# Altium schematic symbol library kmilo17pet-NSC_MiscPower.SchLib: 1552 symbols (part 41 of 43)
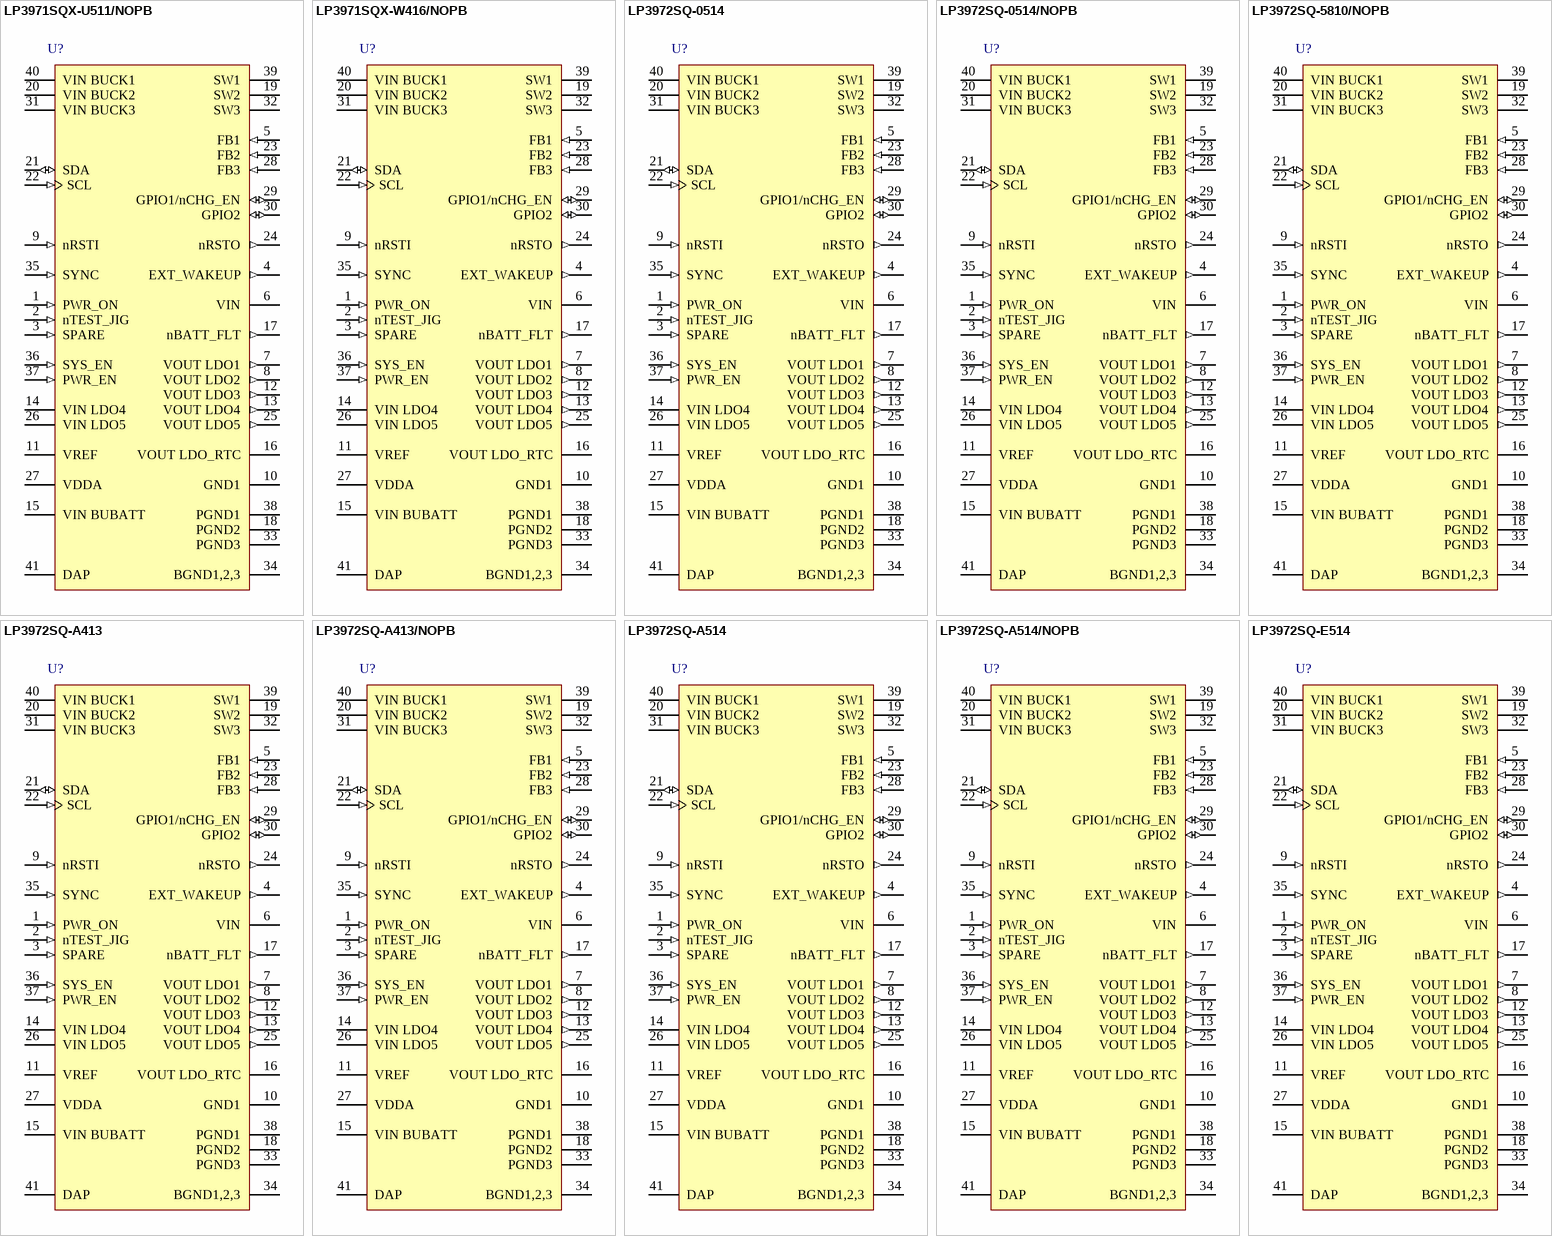
[diagram p97: symbols LP3971SQX-U511/NOPB to LP3972SQ-E514]

## LP3972SQ-A514
designator U?
Power Management Unit for Advanced Application Processor, 40-pin LLP, 1000 Reel; PartNumber: LP3972SQ-A514; Manufacturer: National Semiconductor; PackageTopMarking: NS*UZXYTT*72-A514; PowerWise: Y; CompType: MiscPower; DatasheetVersion: Aug-2011; PackageVersion: revB, Jul-2004; PackageReference: SQF40A; PackageDescription: LLP, Quad, 5 x 5 x 0.8mm Body, 40 Lead, 0.4mm Pitch, 3.6 x 3.6mm Exposed Pad; RoHS: N; PinCount: 40; High-Reliability: Y; ComponentLink1Description: Manufacturer URL; ComponentLink1URL: http://www.national.com/; ComponentLink2Description: LP3972 Datasheet; ComponentLink2URL: http://www.national.com/ds/LP/LP3972.pdf; ComponentLink3Description: LP3972 Web Page; ComponentLink3URL: http://www.national.com/pf/LP/LP3972.html; ComponentLink4Description: SQF40A Package Page; ComponentLink4URL: http://www.national.com/packaging/folders/sqf40a.html
footprint SQF40A (QFN, 41-Leads, Body 5x5mm, Pitch 0.4mm, Thermal Pad 3.6x3.6mm, NSC Recommended)
pins: 1 PWR_ON (in), 2 nTEST_JIG (in), 3 SPARE (in), 4 EXT_WAKEUP (out), 5 FB1 (in), 6 VIN (power), 7 VOUT LDO1 (out), 8 VOUT LDO2 (out), 9 nRSTI (in), 10 GND1 (power), 11 VREF, 12 VOUT LDO3 (out), 13 VOUT LDO4 (out), 14 VIN LDO4 (power), 15 VIN BUBATT (power), 16 VOUT LDO_RTC (power), 17 nBATT_FLT (out), 18 PGND2 (power), 19 SW2 (power), 20 VIN BUCK2 (power), 21 SDA (io), 22 SCL (in), 23 FB2 (in), 24 nRSTO (out), 25 VOUT LDO5 (out), 26 VIN LDO5 (power), 27 VDDA (power), 28 FB3 (in), 29 GPIO1/nCHG_EN (io), 30 GPIO2 (io), 31 VIN BUCK3 (power), 32 SW3 (power), 33 PGND3 (power), 34 BGND1,2,3 (power), 35 SYNC (in), 36 SYS_EN (in), 37 PWR_EN (in), 38 PGND1 (power), 39 SW1 (power), 40 VIN BUCK1 (power), 41 DAP (power)

## LP3972SQ-A514/NOPB
designator U?
Power Management Unit for Advanced Application Processors, 40-pin LLP, Pb-Free, 1000 Reel; PartNumber: LP3972SQ-A514/NOPB; Manufacturer: National Semiconductor; PackageTopMarking: NS*UZXYTT*72-A514; PowerWise: Y; CompType: MiscPower; DatasheetVersion: Aug-2011; PackageVersion: revB, Jul-2004; PackageReference: SQF40A; PackageDescription: LLP, Quad, 5 x 5 x 0.8mm Body, 40 Lead, 0.4mm Pitch, 3.6 x 3.6mm Exposed Pad; RoHS: Y; PinCount: 40; High-Reliability: Y; ComponentLink1Description: Manufacturer URL; ComponentLink1URL: http://www.national.com/; ComponentLink2Description: LP3972 Datasheet; ComponentLink2URL: http://www.national.com/ds/LP/LP3972.pdf; ComponentLink3Description: LP3972 Web Page; ComponentLink3URL: http://www.national.com/pf/LP/LP3972.html; ComponentLink4Description: SQF40A Package Page; ComponentLink4URL: http://www.national.com/packaging/folders/sqf40a.html
footprint SQF40A (QFN, 41-Leads, Body 5x5mm, Pitch 0.4mm, Thermal Pad 3.6x3.6mm, NSC Recommended)
pins: 1 PWR_ON (in), 2 nTEST_JIG (in), 3 SPARE (in), 4 EXT_WAKEUP (out), 5 FB1 (in), 6 VIN (power), 7 VOUT LDO1 (out), 8 VOUT LDO2 (out), 9 nRSTI (in), 10 GND1 (power), 11 VREF, 12 VOUT LDO3 (out), 13 VOUT LDO4 (out), 14 VIN LDO4 (power), 15 VIN BUBATT (power), 16 VOUT LDO_RTC (power), 17 nBATT_FLT (out), 18 PGND2 (power), 19 SW2 (power), 20 VIN BUCK2 (power), 21 SDA (io), 22 SCL (in), 23 FB2 (in), 24 nRSTO (out), 25 VOUT LDO5 (out), 26 VIN LDO5 (power), 27 VDDA (power), 28 FB3 (in), 29 GPIO1/nCHG_EN (io), 30 GPIO2 (io), 31 VIN BUCK3 (power), 32 SW3 (power), 33 PGND3 (power), 34 BGND1,2,3 (power), 35 SYNC (in), 36 SYS_EN (in), 37 PWR_EN (in), 38 PGND1 (power), 39 SW1 (power), 40 VIN BUCK1 (power), 41 DAP (power)

## LP3972SQ-E514
designator U?
Power Management Unit for Advanced Application Processor, 40-pin LLP, 1000 Reel; PartNumber: LP3972SQ-E514; Manufacturer: National Semiconductor; PackageTopMarking: NS*UZXYTT*72-E514; PowerWise: Y; CompType: MiscPower; DatasheetVersion: Aug-2011; PackageVersion: revB, Jul-2004; PackageReference: SQF40A; PackageDescription: LLP, Quad, 5 x 5 x 0.8mm Body, 40 Lead, 0.4mm Pitch, 3.6 x 3.6mm Exposed Pad; RoHS: N; PinCount: 40; High-Reliability: Y; ComponentLink1Description: Manufacturer URL; ComponentLink1URL: http://www.national.com/; ComponentLink2Description: LP3972 Datasheet; ComponentLink2URL: http://www.national.com/ds/LP/LP3972.pdf; ComponentLink3Description: LP3972 Web Page; ComponentLink3URL: http://www.national.com/pf/LP/LP3972.html; ComponentLink4Description: SQF40A Package Page; ComponentLink4URL: http://www.national.com/packaging/folders/sqf40a.html
footprint SQF40A (QFN, 41-Leads, Body 5x5mm, Pitch 0.4mm, Thermal Pad 3.6x3.6mm, NSC Recommended)
pins: 1 PWR_ON (in), 2 nTEST_JIG (in), 3 SPARE (in), 4 EXT_WAKEUP (out), 5 FB1 (in), 6 VIN (power), 7 VOUT LDO1 (out), 8 VOUT LDO2 (out), 9 nRSTI (in), 10 GND1 (power), 11 VREF, 12 VOUT LDO3 (out), 13 VOUT LDO4 (out), 14 VIN LDO4 (power), 15 VIN BUBATT (power), 16 VOUT LDO_RTC (power), 17 nBATT_FLT (out), 18 PGND2 (power), 19 SW2 (power), 20 VIN BUCK2 (power), 21 SDA (io), 22 SCL (in), 23 FB2 (in), 24 nRSTO (out), 25 VOUT LDO5 (out), 26 VIN LDO5 (power), 27 VDDA (power), 28 FB3 (in), 29 GPIO1/nCHG_EN (io), 30 GPIO2 (io), 31 VIN BUCK3 (power), 32 SW3 (power), 33 PGND3 (power), 34 BGND1,2,3 (power), 35 SYNC (in), 36 SYS_EN (in), 37 PWR_EN (in), 38 PGND1 (power), 39 SW1 (power), 40 VIN BUCK1 (power), 41 DAP (power)

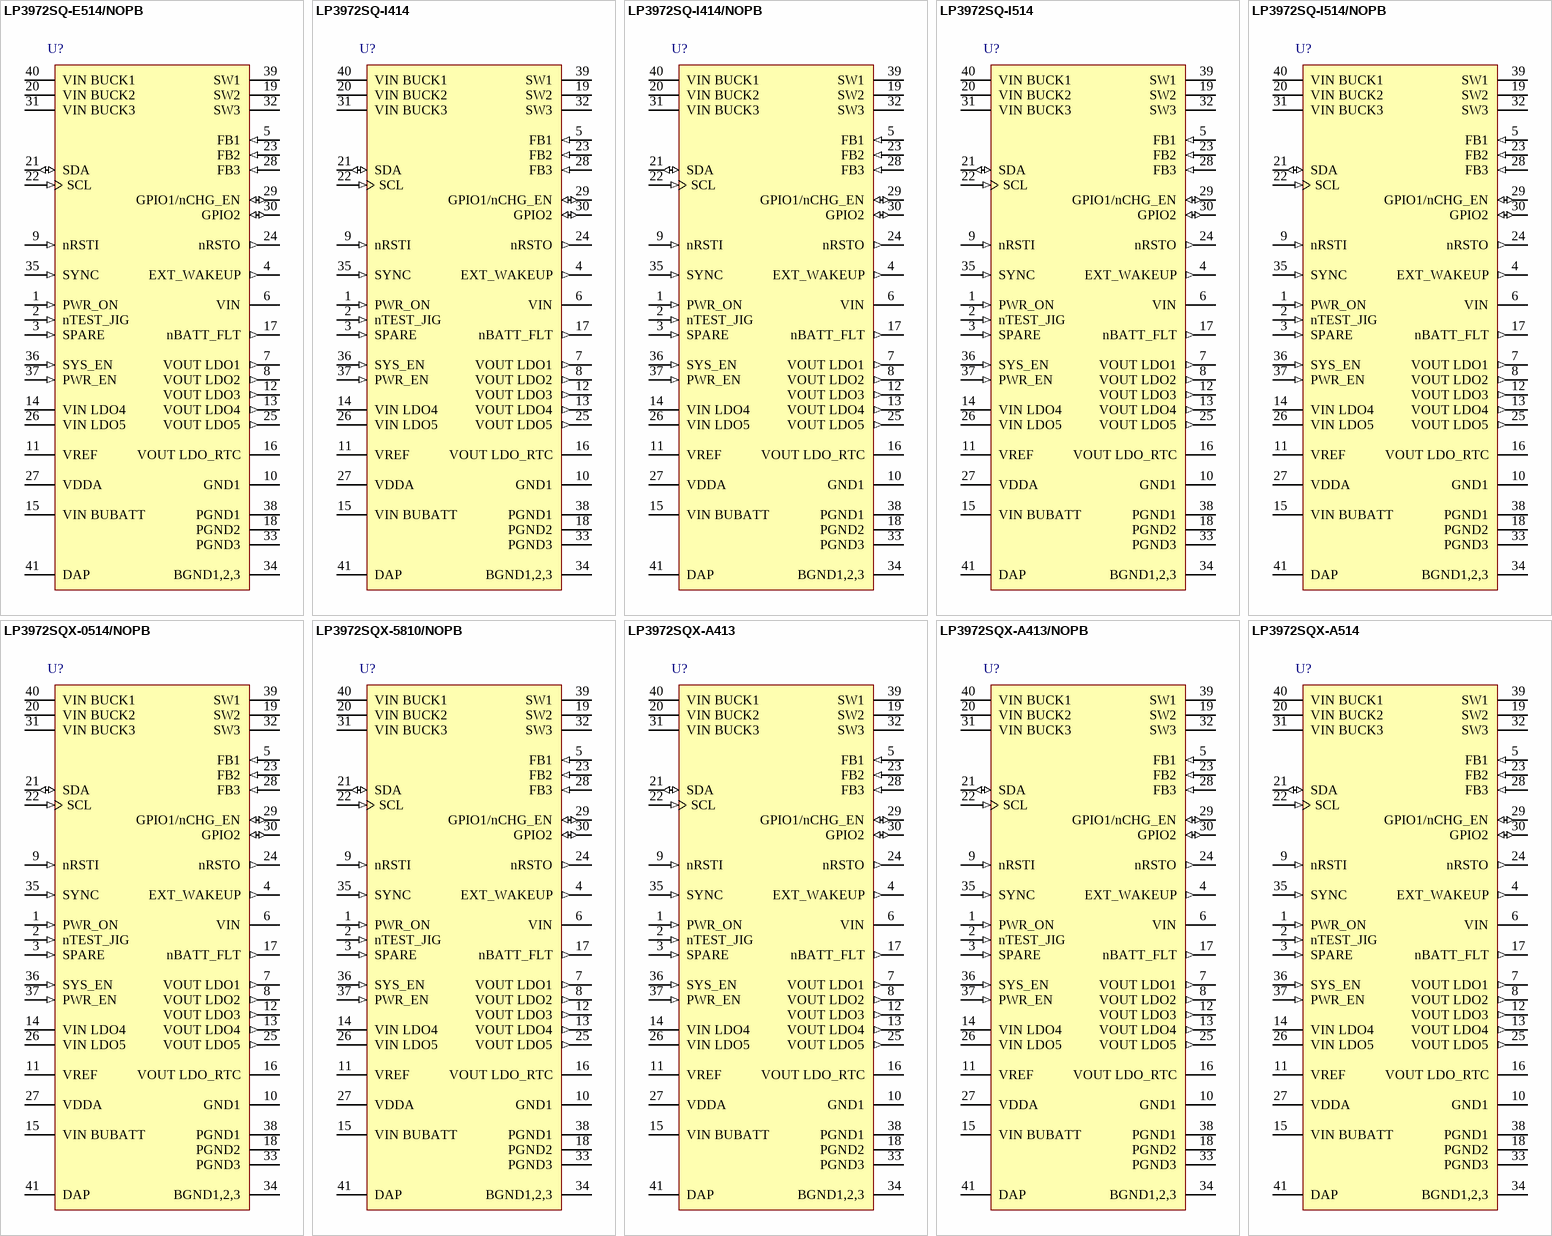
[diagram p53: symbols LP3972SQ-E514/NOPB to LP3972SQX-A514]

## LP3972SQ-E514/NOPB
designator U?
Power Management Unit for Advanced Application Processors, 40-pin LLP, Pb-Free, 1000 Reel; PartNumber: LP3972SQ-E514/NOPB; Manufacturer: National Semiconductor; PackageTopMarking: NS*UZXYTT*72-E514; PowerWise: Y; CompType: MiscPower; DatasheetVersion: Aug-2011; PackageVersion: revB, Jul-2004; PackageReference: SQF40A; PackageDescription: LLP, Quad, 5 x 5 x 0.8mm Body, 40 Lead, 0.4mm Pitch, 3.6 x 3.6mm Exposed Pad; RoHS: Y; PinCount: 40; High-Reliability: Y; ComponentLink1Description: Manufacturer URL; ComponentLink1URL: http://www.national.com/; ComponentLink2Description: LP3972 Datasheet; ComponentLink2URL: http://www.national.com/ds/LP/LP3972.pdf; ComponentLink3Description: LP3972 Web Page; ComponentLink3URL: http://www.national.com/pf/LP/LP3972.html; ComponentLink4Description: SQF40A Package Page; ComponentLink4URL: http://www.national.com/packaging/folders/sqf40a.html
footprint SQF40A (QFN, 41-Leads, Body 5x5mm, Pitch 0.4mm, Thermal Pad 3.6x3.6mm, NSC Recommended)
pins: 1 PWR_ON (in), 2 nTEST_JIG (in), 3 SPARE (in), 4 EXT_WAKEUP (out), 5 FB1 (in), 6 VIN (power), 7 VOUT LDO1 (out), 8 VOUT LDO2 (out), 9 nRSTI (in), 10 GND1 (power), 11 VREF, 12 VOUT LDO3 (out), 13 VOUT LDO4 (out), 14 VIN LDO4 (power), 15 VIN BUBATT (power), 16 VOUT LDO_RTC (power), 17 nBATT_FLT (out), 18 PGND2 (power), 19 SW2 (power), 20 VIN BUCK2 (power), 21 SDA (io), 22 SCL (in), 23 FB2 (in), 24 nRSTO (out), 25 VOUT LDO5 (out), 26 VIN LDO5 (power), 27 VDDA (power), 28 FB3 (in), 29 GPIO1/nCHG_EN (io), 30 GPIO2 (io), 31 VIN BUCK3 (power), 32 SW3 (power), 33 PGND3 (power), 34 BGND1,2,3 (power), 35 SYNC (in), 36 SYS_EN (in), 37 PWR_EN (in), 38 PGND1 (power), 39 SW1 (power), 40 VIN BUCK1 (power), 41 DAP (power)

## LP3972SQ-I414
designator U?
Power Management Unit for Advanced Application Processor, 40-pin LLP; PartNumber: LP3972SQ-I414; Manufacturer: National Semiconductor; PackageTopMarking: NS*UZXYTT*72-I414; PowerWise: Y; CompType: MiscPower; DatasheetVersion: Aug-2011; PackageVersion: revB, Jul-2004; PackageReference: SQF40A; PackageDescription: LLP, Quad, 5 x 5 x 0.8mm Body, 40 Lead, 0.4mm Pitch, 3.6 x 3.6mm Exposed Pad; RoHS: Y; PinCount: 40; High-Reliability: Y; ComponentLink1Description: Manufacturer URL; ComponentLink1URL: http://www.national.com/; ComponentLink2Description: LP3972 Datasheet; ComponentLink2URL: http://www.national.com/ds/LP/LP3972.pdf; ComponentLink3Description: LP3972 Web Page; ComponentLink3URL: http://www.national.com/pf/LP/LP3972.html; ComponentLink4Description: SQF40A Package Page; ComponentLink4URL: http://www.national.com/packaging/folders/sqf40a.html
footprint SQF40A (QFN, 41-Leads, Body 5x5mm, Pitch 0.4mm, Thermal Pad 3.6x3.6mm, NSC Recommended)
pins: 1 PWR_ON (in), 2 nTEST_JIG (in), 3 SPARE (in), 4 EXT_WAKEUP (out), 5 FB1 (in), 6 VIN (power), 7 VOUT LDO1 (out), 8 VOUT LDO2 (out), 9 nRSTI (in), 10 GND1 (power), 11 VREF, 12 VOUT LDO3 (out), 13 VOUT LDO4 (out), 14 VIN LDO4 (power), 15 VIN BUBATT (power), 16 VOUT LDO_RTC (power), 17 nBATT_FLT (out), 18 PGND2 (power), 19 SW2 (power), 20 VIN BUCK2 (power), 21 SDA (io), 22 SCL (in), 23 FB2 (in), 24 nRSTO (out), 25 VOUT LDO5 (out), 26 VIN LDO5 (power), 27 VDDA (power), 28 FB3 (in), 29 GPIO1/nCHG_EN (io), 30 GPIO2 (io), 31 VIN BUCK3 (power), 32 SW3 (power), 33 PGND3 (power), 34 BGND1,2,3 (power), 35 SYNC (in), 36 SYS_EN (in), 37 PWR_EN (in), 38 PGND1 (power), 39 SW1 (power), 40 VIN BUCK1 (power), 41 DAP (power)

## LP3972SQ-I414/NOPB
designator U?
Power Management Unit for Advanced Application Processors, 40-pin LLP, Pb-Free, 1000 Reel; PartNumber: LP3972SQ-I414/NOPB; Manufacturer: National Semiconductor; PackageTopMarking: NS*UZXYTT*72-I414; PowerWise: Y; CompType: MiscPower; DatasheetVersion: Aug-2011; PackageVersion: revB, Jul-2004; PackageReference: SQF40A; PackageDescription: LLP, Quad, 5 x 5 x 0.8mm Body, 40 Lead, 0.4mm Pitch, 3.6 x 3.6mm Exposed Pad; RoHS: Y; PinCount: 40; High-Reliability: Y; ComponentLink1Description: Manufacturer URL; ComponentLink1URL: http://www.national.com/; ComponentLink2Description: LP3972 Datasheet; ComponentLink2URL: http://www.national.com/ds/LP/LP3972.pdf; ComponentLink3Description: LP3972 Web Page; ComponentLink3URL: http://www.national.com/pf/LP/LP3972.html; ComponentLink4Description: SQF40A Package Page; ComponentLink4URL: http://www.national.com/packaging/folders/sqf40a.html
footprint SQF40A (QFN, 41-Leads, Body 5x5mm, Pitch 0.4mm, Thermal Pad 3.6x3.6mm, NSC Recommended)
pins: 1 PWR_ON (in), 2 nTEST_JIG (in), 3 SPARE (in), 4 EXT_WAKEUP (out), 5 FB1 (in), 6 VIN (power), 7 VOUT LDO1 (out), 8 VOUT LDO2 (out), 9 nRSTI (in), 10 GND1 (power), 11 VREF, 12 VOUT LDO3 (out), 13 VOUT LDO4 (out), 14 VIN LDO4 (power), 15 VIN BUBATT (power), 16 VOUT LDO_RTC (power), 17 nBATT_FLT (out), 18 PGND2 (power), 19 SW2 (power), 20 VIN BUCK2 (power), 21 SDA (io), 22 SCL (in), 23 FB2 (in), 24 nRSTO (out), 25 VOUT LDO5 (out), 26 VIN LDO5 (power), 27 VDDA (power), 28 FB3 (in), 29 GPIO1/nCHG_EN (io), 30 GPIO2 (io), 31 VIN BUCK3 (power), 32 SW3 (power), 33 PGND3 (power), 34 BGND1,2,3 (power), 35 SYNC (in), 36 SYS_EN (in), 37 PWR_EN (in), 38 PGND1 (power), 39 SW1 (power), 40 VIN BUCK1 (power), 41 DAP (power)

## LP3972SQ-I514
designator U?
Power Management Unit for Advanced Application Processor, 40-pin LLP, 1000 Reel; PartNumber: LP3972SQ-I514; Manufacturer: National Semiconductor; PackageTopMarking: NS*UZXYTT*72-I514; PowerWise: Y; CompType: MiscPower; DatasheetVersion: Aug-2011; PackageVersion: revB, Jul-2004; PackageReference: SQF40A; PackageDescription: LLP, Quad, 5 x 5 x 0.8mm Body, 40 Lead, 0.4mm Pitch, 3.6 x 3.6mm Exposed Pad; RoHS: N; PinCount: 40; High-Reliability: Y; ComponentLink1Description: Manufacturer URL; ComponentLink1URL: http://www.national.com/; ComponentLink2Description: LP3972 Datasheet; ComponentLink2URL: http://www.national.com/ds/LP/LP3972.pdf; ComponentLink3Description: LP3972 Web Page; ComponentLink3URL: http://www.national.com/pf/LP/LP3972.html; ComponentLink4Description: SQF40A Package Page; ComponentLink4URL: http://www.national.com/packaging/folders/sqf40a.html
footprint SQF40A (QFN, 41-Leads, Body 5x5mm, Pitch 0.4mm, Thermal Pad 3.6x3.6mm, NSC Recommended)
pins: 1 PWR_ON (in), 2 nTEST_JIG (in), 3 SPARE (in), 4 EXT_WAKEUP (out), 5 FB1 (in), 6 VIN (power), 7 VOUT LDO1 (out), 8 VOUT LDO2 (out), 9 nRSTI (in), 10 GND1 (power), 11 VREF, 12 VOUT LDO3 (out), 13 VOUT LDO4 (out), 14 VIN LDO4 (power), 15 VIN BUBATT (power), 16 VOUT LDO_RTC (power), 17 nBATT_FLT (out), 18 PGND2 (power), 19 SW2 (power), 20 VIN BUCK2 (power), 21 SDA (io), 22 SCL (in), 23 FB2 (in), 24 nRSTO (out), 25 VOUT LDO5 (out), 26 VIN LDO5 (power), 27 VDDA (power), 28 FB3 (in), 29 GPIO1/nCHG_EN (io), 30 GPIO2 (io), 31 VIN BUCK3 (power), 32 SW3 (power), 33 PGND3 (power), 34 BGND1,2,3 (power), 35 SYNC (in), 36 SYS_EN (in), 37 PWR_EN (in), 38 PGND1 (power), 39 SW1 (power), 40 VIN BUCK1 (power), 41 DAP (power)

## LP3972SQ-I514/NOPB
designator U?
Power Management Unit for Advanced Application Processors, 40-pin LLP, Pb-Free, 1000 Reel; PartNumber: LP3972SQ-I514/NOPB; Manufacturer: National Semiconductor; PackageTopMarking: NS*UZXYTT*72-I514; PowerWise: Y; CompType: MiscPower; DatasheetVersion: Aug-2011; PackageVersion: revB, Jul-2004; PackageReference: SQF40A; PackageDescription: LLP, Quad, 5 x 5 x 0.8mm Body, 40 Lead, 0.4mm Pitch, 3.6 x 3.6mm Exposed Pad; RoHS: Y; PinCount: 40; High-Reliability: Y; ComponentLink1Description: Manufacturer URL; ComponentLink1URL: http://www.national.com/; ComponentLink2Description: LP3972 Datasheet; ComponentLink2URL: http://www.national.com/ds/LP/LP3972.pdf; ComponentLink3Description: LP3972 Web Page; ComponentLink3URL: http://www.national.com/pf/LP/LP3972.html; ComponentLink4Description: SQF40A Package Page; ComponentLink4URL: http://www.national.com/packaging/folders/sqf40a.html
footprint SQF40A (QFN, 41-Leads, Body 5x5mm, Pitch 0.4mm, Thermal Pad 3.6x3.6mm, NSC Recommended)
pins: 1 PWR_ON (in), 2 nTEST_JIG (in), 3 SPARE (in), 4 EXT_WAKEUP (out), 5 FB1 (in), 6 VIN (power), 7 VOUT LDO1 (out), 8 VOUT LDO2 (out), 9 nRSTI (in), 10 GND1 (power), 11 VREF, 12 VOUT LDO3 (out), 13 VOUT LDO4 (out), 14 VIN LDO4 (power), 15 VIN BUBATT (power), 16 VOUT LDO_RTC (power), 17 nBATT_FLT (out), 18 PGND2 (power), 19 SW2 (power), 20 VIN BUCK2 (power), 21 SDA (io), 22 SCL (in), 23 FB2 (in), 24 nRSTO (out), 25 VOUT LDO5 (out), 26 VIN LDO5 (power), 27 VDDA (power), 28 FB3 (in), 29 GPIO1/nCHG_EN (io), 30 GPIO2 (io), 31 VIN BUCK3 (power), 32 SW3 (power), 33 PGND3 (power), 34 BGND1,2,3 (power), 35 SYNC (in), 36 SYS_EN (in), 37 PWR_EN (in), 38 PGND1 (power), 39 SW1 (power), 40 VIN BUCK1 (power), 41 DAP (power)

## LP3972SQX-0514/NOPB
designator U?
Power Management Unit for Advanced Application Processors, 40-pin LLP, Pb-Free, 4500 Reel; PartNumber: LP3972SQX-0514/NOPB; Manufacturer: National Semiconductor; PackageTopMarking: NS*UZXYTT*72-0514; PowerWise: N; CompType: MiscPower; High-Reliability: Y; DatasheetVersion: Aug-2011; PackageVersion: revB, Jul-2004; PackageReference: SQF40A; PackageDescription: LLP, Quad, 5 x 5 x 0.8mm Body, 40 Lead, 0.4mm Pitch, 3.6 x 3.6mm Exposed Pad; RoHS: Y; PinCount: 40; ComponentLink1Description: Manufacturer URL; ComponentLink1URL: http://www.national.com/; ComponentLink2Description: LP3972 Datasheet; ComponentLink2URL: http://www.national.com/ds/LP/LP3972.pdf; ComponentLink3Description: LP3972 Web Page; ComponentLink3URL: http://www.national.com/pf/LP/LP3972.html; ComponentLink4Description: SQF40A Package Page; ComponentLink4URL: http://www.national.com/packaging/folders/sqf40a.html
footprint SQF40A (QFN, 41-Leads, Body 5x5mm, Pitch 0.4mm, Thermal Pad 3.6x3.6mm, NSC Recommended)
pins: 1 PWR_ON (in), 2 nTEST_JIG (in), 3 SPARE (in), 4 EXT_WAKEUP (out), 5 FB1 (in), 6 VIN (power), 7 VOUT LDO1 (out), 8 VOUT LDO2 (out), 9 nRSTI (in), 10 GND1 (power), 11 VREF, 12 VOUT LDO3 (out), 13 VOUT LDO4 (out), 14 VIN LDO4 (power), 15 VIN BUBATT (power), 16 VOUT LDO_RTC (power), 17 nBATT_FLT (out), 18 PGND2 (power), 19 SW2 (power), 20 VIN BUCK2 (power), 21 SDA (io), 22 SCL (in), 23 FB2 (in), 24 nRSTO (out), 25 VOUT LDO5 (out), 26 VIN LDO5 (power), 27 VDDA (power), 28 FB3 (in), 29 GPIO1/nCHG_EN (io), 30 GPIO2 (io), 31 VIN BUCK3 (power), 32 SW3 (power), 33 PGND3 (power), 34 BGND1,2,3 (power), 35 SYNC (in), 36 SYS_EN (in), 37 PWR_EN (in), 38 PGND1 (power), 39 SW1 (power), 40 VIN BUCK1 (power), 41 DAP (power)

## LP3972SQX-5810/NOPB
designator U?
Power Management Unit for Advanced Application Processors, 40-pin LLP, 4500 Reel; PartNumber: LP3972SQX-5810/NOPB; Manufacturer: National Semiconductor; PackageTopMarking: NS*UZXYTT*72-5810; PowerWise: N; CompType: MiscPower; High-Reliability: Y; DatasheetVersion: Aug-2011; PackageVersion: revB, Jul-2004; PackageReference: SQF40A; PackageDescription: LLP, Quad, 5 x 5 x 0.8mm Body, 40 Lead, 0.4mm Pitch, 3.6 x 3.6mm Exposed Pad; RoHS: Y; PinCount: 40; ComponentLink1Description: Manufacturer URL; ComponentLink1URL: http://www.national.com/; ComponentLink2Description: LP3972 Datasheet; ComponentLink2URL: http://www.national.com/ds/LP/LP3972.pdf; ComponentLink3Description: LP3972 Web Page; ComponentLink3URL: http://www.national.com/pf/LP/LP3972.html; ComponentLink4Description: SQF40A Package Page; ComponentLink4URL: http://www.national.com/packaging/folders/sqf40a.html
footprint SQF40A (QFN, 41-Leads, Body 5x5mm, Pitch 0.4mm, Thermal Pad 3.6x3.6mm, NSC Recommended)
pins: 1 PWR_ON (in), 2 nTEST_JIG (in), 3 SPARE (in), 4 EXT_WAKEUP (out), 5 FB1 (in), 6 VIN (power), 7 VOUT LDO1 (out), 8 VOUT LDO2 (out), 9 nRSTI (in), 10 GND1 (power), 11 VREF, 12 VOUT LDO3 (out), 13 VOUT LDO4 (out), 14 VIN LDO4 (power), 15 VIN BUBATT (power), 16 VOUT LDO_RTC (power), 17 nBATT_FLT (out), 18 PGND2 (power), 19 SW2 (power), 20 VIN BUCK2 (power), 21 SDA (io), 22 SCL (in), 23 FB2 (in), 24 nRSTO (out), 25 VOUT LDO5 (out), 26 VIN LDO5 (power), 27 VDDA (power), 28 FB3 (in), 29 GPIO1/nCHG_EN (io), 30 GPIO2 (io), 31 VIN BUCK3 (power), 32 SW3 (power), 33 PGND3 (power), 34 BGND1,2,3 (power), 35 SYNC (in), 36 SYS_EN (in), 37 PWR_EN (in), 38 PGND1 (power), 39 SW1 (power), 40 VIN BUCK1 (power), 41 DAP (power)

## LP3972SQX-A413
designator U?
Power Management Unit for Advanced Application Processors, 40-pin LLP, 4500 Reel; PartNumber: LP3972SQX-A413; Manufacturer: National Semiconductor; PackageTopMarking: NS*UZXYTT*72-A413; PowerWise: Y; CompType: MiscPower; DatasheetVersion: Aug-2011; PackageVersion: revB, Jul-2004; PackageReference: SQF40A; PackageDescription: LLP, Quad, 5 x 5 x 0.8mm Body, 40 Lead, 0.4mm Pitch, 3.6 x 3.6mm Exposed Pad; RoHS: N; PinCount: 40; High-Reliability: Y; ComponentLink1Description: Manufacturer URL; ComponentLink1URL: http://www.national.com/; ComponentLink2Description: LP3972 Datasheet; ComponentLink2URL: http://www.national.com/ds/LP/LP3972.pdf; ComponentLink3Description: LP3972 Web Page; ComponentLink3URL: http://www.national.com/pf/LP/LP3972.html; ComponentLink4Description: SQF40A Package Page; ComponentLink4URL: http://www.national.com/packaging/folders/sqf40a.html
footprint SQF40A (QFN, 41-Leads, Body 5x5mm, Pitch 0.4mm, Thermal Pad 3.6x3.6mm, NSC Recommended)
pins: 1 PWR_ON (in), 2 nTEST_JIG (in), 3 SPARE (in), 4 EXT_WAKEUP (out), 5 FB1 (in), 6 VIN (power), 7 VOUT LDO1 (out), 8 VOUT LDO2 (out), 9 nRSTI (in), 10 GND1 (power), 11 VREF, 12 VOUT LDO3 (out), 13 VOUT LDO4 (out), 14 VIN LDO4 (power), 15 VIN BUBATT (power), 16 VOUT LDO_RTC (power), 17 nBATT_FLT (out), 18 PGND2 (power), 19 SW2 (power), 20 VIN BUCK2 (power), 21 SDA (io), 22 SCL (in), 23 FB2 (in), 24 nRSTO (out), 25 VOUT LDO5 (out), 26 VIN LDO5 (power), 27 VDDA (power), 28 FB3 (in), 29 GPIO1/nCHG_EN (io), 30 GPIO2 (io), 31 VIN BUCK3 (power), 32 SW3 (power), 33 PGND3 (power), 34 BGND1,2,3 (power), 35 SYNC (in), 36 SYS_EN (in), 37 PWR_EN (in), 38 PGND1 (power), 39 SW1 (power), 40 VIN BUCK1 (power), 41 DAP (power)

## LP3972SQX-A413/NOPB
designator U?
Power Management Unit for Advanced Application Processors, 40-pin LLP, Pb-Free, 4500 Reel; PartNumber: LP3972SQX-A413/NOPB; Manufacturer: National Semiconductor; PackageTopMarking: NS*UZXYTT*72-A413; PowerWise: Y; CompType: MiscPower; DatasheetVersion: Aug-2011; PackageVersion: revB, Jul-2004; PackageReference: SQF40A; PackageDescription: LLP, Quad, 5 x 5 x 0.8mm Body, 40 Lead, 0.4mm Pitch, 3.6 x 3.6mm Exposed Pad; RoHS: Y; PinCount: 40; High-Reliability: Y; ComponentLink1Description: Manufacturer URL; ComponentLink1URL: http://www.national.com/; ComponentLink2Description: LP3972 Datasheet; ComponentLink2URL: http://www.national.com/ds/LP/LP3972.pdf; ComponentLink3Description: LP3972 Web Page; ComponentLink3URL: http://www.national.com/pf/LP/LP3972.html; ComponentLink4Description: SQF40A Package Page; ComponentLink4URL: http://www.national.com/packaging/folders/sqf40a.html
footprint SQF40A (QFN, 41-Leads, Body 5x5mm, Pitch 0.4mm, Thermal Pad 3.6x3.6mm, NSC Recommended)
pins: 1 PWR_ON (in), 2 nTEST_JIG (in), 3 SPARE (in), 4 EXT_WAKEUP (out), 5 FB1 (in), 6 VIN (power), 7 VOUT LDO1 (out), 8 VOUT LDO2 (out), 9 nRSTI (in), 10 GND1 (power), 11 VREF, 12 VOUT LDO3 (out), 13 VOUT LDO4 (out), 14 VIN LDO4 (power), 15 VIN BUBATT (power), 16 VOUT LDO_RTC (power), 17 nBATT_FLT (out), 18 PGND2 (power), 19 SW2 (power), 20 VIN BUCK2 (power), 21 SDA (io), 22 SCL (in), 23 FB2 (in), 24 nRSTO (out), 25 VOUT LDO5 (out), 26 VIN LDO5 (power), 27 VDDA (power), 28 FB3 (in), 29 GPIO1/nCHG_EN (io), 30 GPIO2 (io), 31 VIN BUCK3 (power), 32 SW3 (power), 33 PGND3 (power), 34 BGND1,2,3 (power), 35 SYNC (in), 36 SYS_EN (in), 37 PWR_EN (in), 38 PGND1 (power), 39 SW1 (power), 40 VIN BUCK1 (power), 41 DAP (power)

## LP3972SQX-A514
designator U?
Power Management Unit for Advanced Application Processors, 40-pin LLP, 4500 Reel; PartNumber: LP3972SQX-A514; Manufacturer: National Semiconductor; PackageTopMarking: NS*UZXYTT*72-A514; PowerWise: Y; CompType: MiscPower; DatasheetVersion: Aug-2011; PackageVersion: revB, Jul-2004; PackageReference: SQF40A; PackageDescription: LLP, Quad, 5 x 5 x 0.8mm Body, 40 Lead, 0.4mm Pitch, 3.6 x 3.6mm Exposed Pad; RoHS: N; PinCount: 40; High-Reliability: Y; ComponentLink1Description: Manufacturer URL; ComponentLink1URL: http://www.national.com/; ComponentLink2Description: LP3972 Datasheet; ComponentLink2URL: http://www.national.com/ds/LP/LP3972.pdf; ComponentLink3Description: LP3972 Web Page; ComponentLink3URL: http://www.national.com/pf/LP/LP3972.html; ComponentLink4Description: SQF40A Package Page; ComponentLink4URL: http://www.national.com/packaging/folders/sqf40a.html
footprint SQF40A (QFN, 41-Leads, Body 5x5mm, Pitch 0.4mm, Thermal Pad 3.6x3.6mm, NSC Recommended)
pins: 1 PWR_ON (in), 2 nTEST_JIG (in), 3 SPARE (in), 4 EXT_WAKEUP (out), 5 FB1 (in), 6 VIN (power), 7 VOUT LDO1 (out), 8 VOUT LDO2 (out), 9 nRSTI (in), 10 GND1 (power), 11 VREF, 12 VOUT LDO3 (out), 13 VOUT LDO4 (out), 14 VIN LDO4 (power), 15 VIN BUBATT (power), 16 VOUT LDO_RTC (power), 17 nBATT_FLT (out), 18 PGND2 (power), 19 SW2 (power), 20 VIN BUCK2 (power), 21 SDA (io), 22 SCL (in), 23 FB2 (in), 24 nRSTO (out), 25 VOUT LDO5 (out), 26 VIN LDO5 (power), 27 VDDA (power), 28 FB3 (in), 29 GPIO1/nCHG_EN (io), 30 GPIO2 (io), 31 VIN BUCK3 (power), 32 SW3 (power), 33 PGND3 (power), 34 BGND1,2,3 (power), 35 SYNC (in), 36 SYS_EN (in), 37 PWR_EN (in), 38 PGND1 (power), 39 SW1 (power), 40 VIN BUCK1 (power), 41 DAP (power)

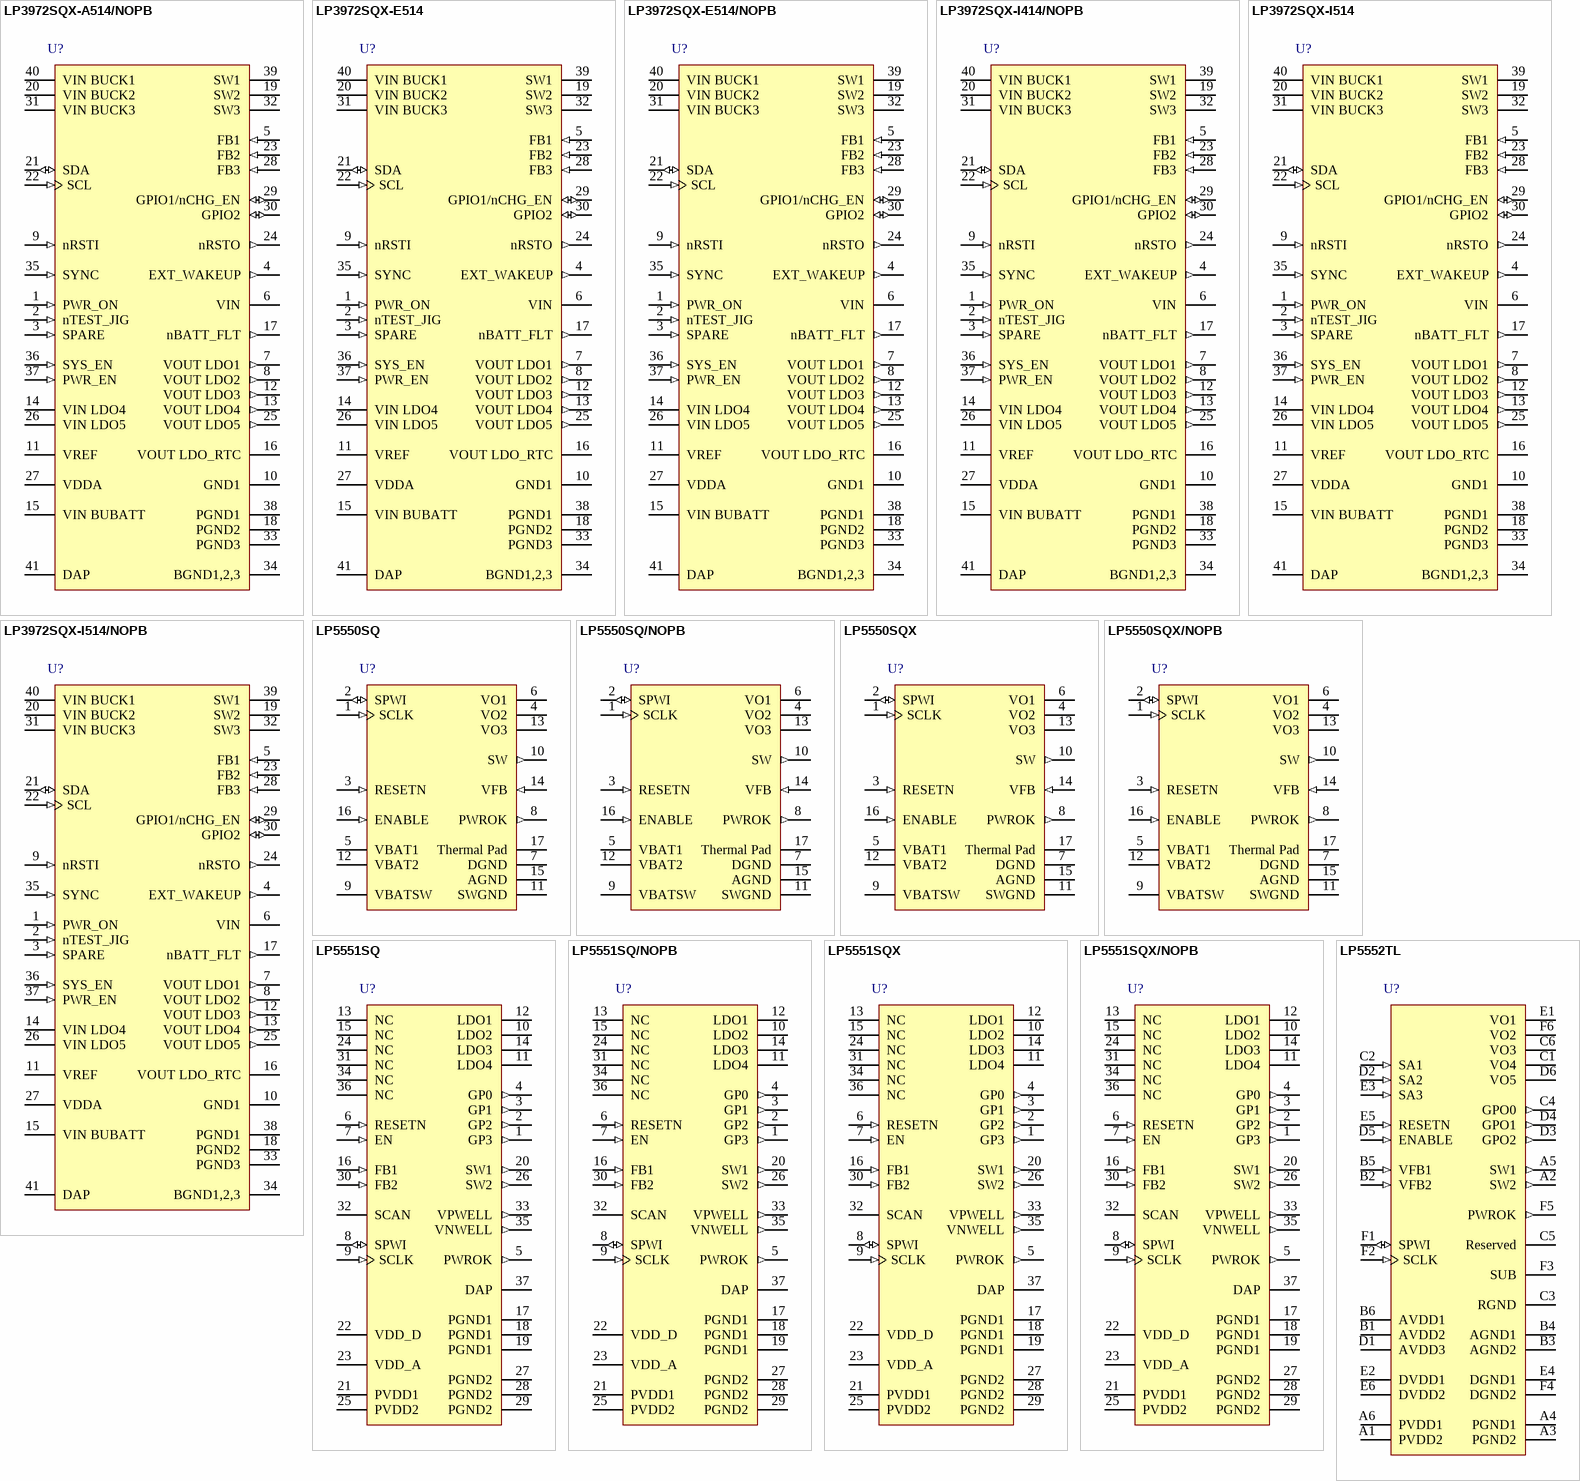
[diagram p54: symbols LP3972SQX-A514/NOPB to LP5552TL]

## LP3972SQX-A514/NOPB
designator U?
Power Management Unit for Advanced Application Processors, 40-pin LLP, Pb-Free, 4500 Reel; PartNumber: LP3972SQX-A514/NOPB; Manufacturer: National Semiconductor; PackageTopMarking: NS*UZXYTT*72-A514; PowerWise: Y; CompType: MiscPower; DatasheetVersion: Aug-2011; PackageVersion: revB, Jul-2004; PackageReference: SQF40A; PackageDescription: LLP, Quad, 5 x 5 x 0.8mm Body, 40 Lead, 0.4mm Pitch, 3.6 x 3.6mm Exposed Pad; RoHS: Y; PinCount: 40; High-Reliability: Y; ComponentLink1Description: Manufacturer URL; ComponentLink1URL: http://www.national.com/; ComponentLink2Description: LP3972 Datasheet; ComponentLink2URL: http://www.national.com/ds/LP/LP3972.pdf; ComponentLink3Description: LP3972 Web Page; ComponentLink3URL: http://www.national.com/pf/LP/LP3972.html; ComponentLink4Description: SQF40A Package Page; ComponentLink4URL: http://www.national.com/packaging/folders/sqf40a.html
footprint SQF40A (QFN, 41-Leads, Body 5x5mm, Pitch 0.4mm, Thermal Pad 3.6x3.6mm, NSC Recommended)
pins: 1 PWR_ON (in), 2 nTEST_JIG (in), 3 SPARE (in), 4 EXT_WAKEUP (out), 5 FB1 (in), 6 VIN (power), 7 VOUT LDO1 (out), 8 VOUT LDO2 (out), 9 nRSTI (in), 10 GND1 (power), 11 VREF, 12 VOUT LDO3 (out), 13 VOUT LDO4 (out), 14 VIN LDO4 (power), 15 VIN BUBATT (power), 16 VOUT LDO_RTC (power), 17 nBATT_FLT (out), 18 PGND2 (power), 19 SW2 (power), 20 VIN BUCK2 (power), 21 SDA (io), 22 SCL (in), 23 FB2 (in), 24 nRSTO (out), 25 VOUT LDO5 (out), 26 VIN LDO5 (power), 27 VDDA (power), 28 FB3 (in), 29 GPIO1/nCHG_EN (io), 30 GPIO2 (io), 31 VIN BUCK3 (power), 32 SW3 (power), 33 PGND3 (power), 34 BGND1,2,3 (power), 35 SYNC (in), 36 SYS_EN (in), 37 PWR_EN (in), 38 PGND1 (power), 39 SW1 (power), 40 VIN BUCK1 (power), 41 DAP (power)

## LP3972SQX-E514
designator U?
Power Management Unit for Advanced Application Processors, 40-pin LLP, 4500 Reel; PartNumber: LP3972SQX-E514; Manufacturer: National Semiconductor; PackageTopMarking: NS*UZXYTT*72-E514; PowerWise: Y; CompType: MiscPower; DatasheetVersion: Aug-2011; PackageVersion: revB, Jul-2004; PackageReference: SQF40A; PackageDescription: LLP, Quad, 5 x 5 x 0.8mm Body, 40 Lead, 0.4mm Pitch, 3.6 x 3.6mm Exposed Pad; RoHS: N; PinCount: 40; High-Reliability: Y; ComponentLink1Description: Manufacturer URL; ComponentLink1URL: http://www.national.com/; ComponentLink2Description: LP3972 Datasheet; ComponentLink2URL: http://www.national.com/ds/LP/LP3972.pdf; ComponentLink3Description: LP3972 Web Page; ComponentLink3URL: http://www.national.com/pf/LP/LP3972.html; ComponentLink4Description: SQF40A Package Page; ComponentLink4URL: http://www.national.com/packaging/folders/sqf40a.html
footprint SQF40A (QFN, 41-Leads, Body 5x5mm, Pitch 0.4mm, Thermal Pad 3.6x3.6mm, NSC Recommended)
pins: 1 PWR_ON (in), 2 nTEST_JIG (in), 3 SPARE (in), 4 EXT_WAKEUP (out), 5 FB1 (in), 6 VIN (power), 7 VOUT LDO1 (out), 8 VOUT LDO2 (out), 9 nRSTI (in), 10 GND1 (power), 11 VREF, 12 VOUT LDO3 (out), 13 VOUT LDO4 (out), 14 VIN LDO4 (power), 15 VIN BUBATT (power), 16 VOUT LDO_RTC (power), 17 nBATT_FLT (out), 18 PGND2 (power), 19 SW2 (power), 20 VIN BUCK2 (power), 21 SDA (io), 22 SCL (in), 23 FB2 (in), 24 nRSTO (out), 25 VOUT LDO5 (out), 26 VIN LDO5 (power), 27 VDDA (power), 28 FB3 (in), 29 GPIO1/nCHG_EN (io), 30 GPIO2 (io), 31 VIN BUCK3 (power), 32 SW3 (power), 33 PGND3 (power), 34 BGND1,2,3 (power), 35 SYNC (in), 36 SYS_EN (in), 37 PWR_EN (in), 38 PGND1 (power), 39 SW1 (power), 40 VIN BUCK1 (power), 41 DAP (power)

## LP3972SQX-E514/NOPB
designator U?
Power Management Unit for Advanced Application Processors, 40-pin LLP, Pb-Free, 4500 Reel; PartNumber: LP3972SQX-E514/NOPB; Manufacturer: National Semiconductor; PackageTopMarking: NS*UZXYTT*72-E514; PowerWise: Y; CompType: MiscPower; DatasheetVersion: Aug-2011; PackageVersion: revB, Jul-2004; PackageReference: SQF40A; PackageDescription: LLP, Quad, 5 x 5 x 0.8mm Body, 40 Lead, 0.4mm Pitch, 3.6 x 3.6mm Exposed Pad; RoHS: Y; PinCount: 40; High-Reliability: Y; ComponentLink1Description: Manufacturer URL; ComponentLink1URL: http://www.national.com/; ComponentLink2Description: LP3972 Datasheet; ComponentLink2URL: http://www.national.com/ds/LP/LP3972.pdf; ComponentLink3Description: LP3972 Web Page; ComponentLink3URL: http://www.national.com/pf/LP/LP3972.html; ComponentLink4Description: SQF40A Package Page; ComponentLink4URL: http://www.national.com/packaging/folders/sqf40a.html
footprint SQF40A (QFN, 41-Leads, Body 5x5mm, Pitch 0.4mm, Thermal Pad 3.6x3.6mm, NSC Recommended)
pins: 1 PWR_ON (in), 2 nTEST_JIG (in), 3 SPARE (in), 4 EXT_WAKEUP (out), 5 FB1 (in), 6 VIN (power), 7 VOUT LDO1 (out), 8 VOUT LDO2 (out), 9 nRSTI (in), 10 GND1 (power), 11 VREF, 12 VOUT LDO3 (out), 13 VOUT LDO4 (out), 14 VIN LDO4 (power), 15 VIN BUBATT (power), 16 VOUT LDO_RTC (power), 17 nBATT_FLT (out), 18 PGND2 (power), 19 SW2 (power), 20 VIN BUCK2 (power), 21 SDA (io), 22 SCL (in), 23 FB2 (in), 24 nRSTO (out), 25 VOUT LDO5 (out), 26 VIN LDO5 (power), 27 VDDA (power), 28 FB3 (in), 29 GPIO1/nCHG_EN (io), 30 GPIO2 (io), 31 VIN BUCK3 (power), 32 SW3 (power), 33 PGND3 (power), 34 BGND1,2,3 (power), 35 SYNC (in), 36 SYS_EN (in), 37 PWR_EN (in), 38 PGND1 (power), 39 SW1 (power), 40 VIN BUCK1 (power), 41 DAP (power)

## LP3972SQX-I414/NOPB
designator U?
Power Management Unit for Advanced Application Processors, 40-pin LLP, Pb-Free, 4500 Reel; PartNumber: LP3972SQX-I414/NOPB; Manufacturer: National Semiconductor; PackageTopMarking: NS*UZXYTT*72-I414; PowerWise: Y; CompType: MiscPower; DatasheetVersion: Aug-2011; PackageVersion: revB, Jul-2004; PackageReference: SQF40A; PackageDescription: LLP, Quad, 5 x 5 x 0.8mm Body, 40 Lead, 0.4mm Pitch, 3.6 x 3.6mm Exposed Pad; RoHS: Y; PinCount: 40; High-Reliability: Y; ComponentLink1Description: Manufacturer URL; ComponentLink1URL: http://www.national.com/; ComponentLink2Description: LP3972 Datasheet; ComponentLink2URL: http://www.national.com/ds/LP/LP3972.pdf; ComponentLink3Description: LP3972 Web Page; ComponentLink3URL: http://www.national.com/pf/LP/LP3972.html; ComponentLink4Description: SQF40A Package Page; ComponentLink4URL: http://www.national.com/packaging/folders/sqf40a.html
footprint SQF40A (QFN, 41-Leads, Body 5x5mm, Pitch 0.4mm, Thermal Pad 3.6x3.6mm, NSC Recommended)
pins: 1 PWR_ON (in), 2 nTEST_JIG (in), 3 SPARE (in), 4 EXT_WAKEUP (out), 5 FB1 (in), 6 VIN (power), 7 VOUT LDO1 (out), 8 VOUT LDO2 (out), 9 nRSTI (in), 10 GND1 (power), 11 VREF, 12 VOUT LDO3 (out), 13 VOUT LDO4 (out), 14 VIN LDO4 (power), 15 VIN BUBATT (power), 16 VOUT LDO_RTC (power), 17 nBATT_FLT (out), 18 PGND2 (power), 19 SW2 (power), 20 VIN BUCK2 (power), 21 SDA (io), 22 SCL (in), 23 FB2 (in), 24 nRSTO (out), 25 VOUT LDO5 (out), 26 VIN LDO5 (power), 27 VDDA (power), 28 FB3 (in), 29 GPIO1/nCHG_EN (io), 30 GPIO2 (io), 31 VIN BUCK3 (power), 32 SW3 (power), 33 PGND3 (power), 34 BGND1,2,3 (power), 35 SYNC (in), 36 SYS_EN (in), 37 PWR_EN (in), 38 PGND1 (power), 39 SW1 (power), 40 VIN BUCK1 (power), 41 DAP (power)

## LP3972SQX-I514
designator U?
Power Management Unit for Advanced Application Processors, 40-pin LLP, 4500 Reel; PartNumber: LP3972SQX-I514; Manufacturer: National Semiconductor; PackageTopMarking: NS*UZXYTT*72-I514; PowerWise: Y; CompType: MiscPower; DatasheetVersion: Aug-2011; PackageVersion: revB, Jul-2004; PackageReference: SQF40A; PackageDescription: LLP, Quad, 5 x 5 x 0.8mm Body, 40 Lead, 0.4mm Pitch, 3.6 x 3.6mm Exposed Pad; RoHS: N; PinCount: 40; High-Reliability: Y; ComponentLink1Description: Manufacturer URL; ComponentLink1URL: http://www.national.com/; ComponentLink2Description: LP3972 Datasheet; ComponentLink2URL: http://www.national.com/ds/LP/LP3972.pdf; ComponentLink3Description: LP3972 Web Page; ComponentLink3URL: http://www.national.com/pf/LP/LP3972.html; ComponentLink4Description: SQF40A Package Page; ComponentLink4URL: http://www.national.com/packaging/folders/sqf40a.html
footprint SQF40A (QFN, 41-Leads, Body 5x5mm, Pitch 0.4mm, Thermal Pad 3.6x3.6mm, NSC Recommended)
pins: 1 PWR_ON (in), 2 nTEST_JIG (in), 3 SPARE (in), 4 EXT_WAKEUP (out), 5 FB1 (in), 6 VIN (power), 7 VOUT LDO1 (out), 8 VOUT LDO2 (out), 9 nRSTI (in), 10 GND1 (power), 11 VREF, 12 VOUT LDO3 (out), 13 VOUT LDO4 (out), 14 VIN LDO4 (power), 15 VIN BUBATT (power), 16 VOUT LDO_RTC (power), 17 nBATT_FLT (out), 18 PGND2 (power), 19 SW2 (power), 20 VIN BUCK2 (power), 21 SDA (io), 22 SCL (in), 23 FB2 (in), 24 nRSTO (out), 25 VOUT LDO5 (out), 26 VIN LDO5 (power), 27 VDDA (power), 28 FB3 (in), 29 GPIO1/nCHG_EN (io), 30 GPIO2 (io), 31 VIN BUCK3 (power), 32 SW3 (power), 33 PGND3 (power), 34 BGND1,2,3 (power), 35 SYNC (in), 36 SYS_EN (in), 37 PWR_EN (in), 38 PGND1 (power), 39 SW1 (power), 40 VIN BUCK1 (power), 41 DAP (power)

## LP3972SQX-I514/NOPB
designator U?
Power Management Unit for Advanced Application Processors, 40-pin LLP, Pb-Free, 4500 Reel; PartNumber: LP3972SQX-I514/NOPB; Manufacturer: National Semiconductor; PackageTopMarking: NS*UZXYTT*72-I514; PowerWise: Y; CompType: MiscPower; DatasheetVersion: Aug-2011; PackageVersion: revB, Jul-2004; PackageReference: SQF40A; PackageDescription: LLP, Quad, 5 x 5 x 0.8mm Body, 40 Lead, 0.4mm Pitch, 3.6 x 3.6mm Exposed Pad; RoHS: Y; PinCount: 40; High-Reliability: Y; ComponentLink1Description: Manufacturer URL; ComponentLink1URL: http://www.national.com/; ComponentLink2Description: LP3972 Datasheet; ComponentLink2URL: http://www.national.com/ds/LP/LP3972.pdf; ComponentLink3Description: LP3972 Web Page; ComponentLink3URL: http://www.national.com/pf/LP/LP3972.html; ComponentLink4Description: SQF40A Package Page; ComponentLink4URL: http://www.national.com/packaging/folders/sqf40a.html
footprint SQF40A (QFN, 41-Leads, Body 5x5mm, Pitch 0.4mm, Thermal Pad 3.6x3.6mm, NSC Recommended)
pins: 1 PWR_ON (in), 2 nTEST_JIG (in), 3 SPARE (in), 4 EXT_WAKEUP (out), 5 FB1 (in), 6 VIN (power), 7 VOUT LDO1 (out), 8 VOUT LDO2 (out), 9 nRSTI (in), 10 GND1 (power), 11 VREF, 12 VOUT LDO3 (out), 13 VOUT LDO4 (out), 14 VIN LDO4 (power), 15 VIN BUBATT (power), 16 VOUT LDO_RTC (power), 17 nBATT_FLT (out), 18 PGND2 (power), 19 SW2 (power), 20 VIN BUCK2 (power), 21 SDA (io), 22 SCL (in), 23 FB2 (in), 24 nRSTO (out), 25 VOUT LDO5 (out), 26 VIN LDO5 (power), 27 VDDA (power), 28 FB3 (in), 29 GPIO1/nCHG_EN (io), 30 GPIO2 (io), 31 VIN BUCK3 (power), 32 SW3 (power), 33 PGND3 (power), 34 BGND1,2,3 (power), 35 SYNC (in), 36 SYS_EN (in), 37 PWR_EN (in), 38 PGND1 (power), 39 SW1 (power), 40 VIN BUCK1 (power), 41 DAP (power)

## LP5550SQ
designator U?
PowerWise Technology Compliant Energy Management Unit, 16-pin LLP; PartNumber: LP5550SQ; Manufacturer: National Semiconductor; PackageTopMarking: NS*UZXYTT*L5550SQ; PowerWise: Y; CompType: MiscPower; DatasheetVersion: Jan-2006; PackageVersion: revA, Oct-2003; PackageReference: SQA16A; PackageDescription: LLP, Plastic, Quad, 4 x 4 x 0.8mm Body, 16 Lead, 0.5mm Pitch, No Pullback; RoHS: N; PinCount: 16; High-Reliability: Y; ComponentLink1Description: Manufacturer URL; ComponentLink1URL: http://www.national.com/; ComponentLink2Description: LP5550 Datasheet; ComponentLink2URL: http://www.national.com/ds/LP/LP5550.pdf; ComponentLink3Description: LP5550 Web Page; ComponentLink3URL: http://www.national.com/pf/LP/LP5550.html; ComponentLink4Description: SQA16A Package Page; ComponentLink4URL: http://www.national.com/packaging/folders/sqa16a.html
footprint SQA16A (QFN, 16-Leads, Body 4x4mm, Pitch 0.5mm, Thermal Pad 2.7x2.7mm, NSC Recommended)
pins: 1 SCLK (in), 2 SPWI (io), 3 RESETN (in), 4 VO2 (power), 5 VBAT1 (power), 6 VO1 (power), 7 DGND (power), 8 PWROK (out), 9 VBATSW (power), 10 SW (out), 11 SWGND (power), 12 VBAT2 (power), 13 VO3 (power), 14 VFB (in), 15 AGND (power), 16 ENABLE (in), 17 Thermal Pad (power)

## LP5550SQ/NOPB
designator U?
PowerWise Technology Compliant Energy Management Unit, 16-pin LLP, Pb-Free; PartNumber: LP5550SQ/NOPB; Manufacturer: National Semiconductor; PackageTopMarking: NS*UZXYTT*L5550SQ; PowerWise: Y; CompType: MiscPower; DatasheetVersion: Jan-2006; PackageVersion: revA, Oct-2003; PackageReference: SQA16A; PackageDescription: LLP, Plastic, Quad, 4 x 4 x 0.8mm Body, 16 Lead, 0.5mm Pitch, No Pullback; RoHS: Y; PinCount: 16; High-Reliability: Y; ComponentLink1Description: Manufacturer URL; ComponentLink1URL: http://www.national.com/; ComponentLink2Description: LP5550 Datasheet; ComponentLink2URL: http://www.national.com/ds/LP/LP5550.pdf; ComponentLink3Description: LP5550 Web Page; ComponentLink3URL: http://www.national.com/pf/LP/LP5550.html; ComponentLink4Description: SQA16A Package Page; ComponentLink4URL: http://www.national.com/packaging/folders/sqa16a.html
footprint SQA16A (QFN, 16-Leads, Body 4x4mm, Pitch 0.5mm, Thermal Pad 2.7x2.7mm, NSC Recommended)
pins: 1 SCLK (in), 2 SPWI (io), 3 RESETN (in), 4 VO2 (power), 5 VBAT1 (power), 6 VO1 (power), 7 DGND (power), 8 PWROK (out), 9 VBATSW (power), 10 SW (out), 11 SWGND (power), 12 VBAT2 (power), 13 VO3 (power), 14 VFB (in), 15 AGND (power), 16 ENABLE (in), 17 Thermal Pad (power)

## LP5550SQX
designator U?
PowerWise Technology Compliant Energy Management Unit, 16-pin LLP; PartNumber: LP5550SQX; Manufacturer: National Semiconductor; PackageTopMarking: NS*UZXYTT*L5550SQ; PowerWise: Y; CompType: MiscPower; DatasheetVersion: Jan-2006; PackageVersion: revA, Oct-2003; PackageReference: SQA16A; PackageDescription: LLP, Plastic, Quad, 4 x 4 x 0.8mm Body, 16 Lead, 0.5mm Pitch, No Pullback; RoHS: N; PinCount: 16; High-Reliability: Y; ComponentLink1Description: Manufacturer URL; ComponentLink1URL: http://www.national.com/; ComponentLink2Description: LP5550 Datasheet; ComponentLink2URL: http://www.national.com/ds/LP/LP5550.pdf; ComponentLink3Description: LP5550 Web Page; ComponentLink3URL: http://www.national.com/pf/LP/LP5550.html; ComponentLink4Description: SQA16A Package Page; ComponentLink4URL: http://www.national.com/packaging/folders/sqa16a.html
footprint SQA16A (QFN, 16-Leads, Body 4x4mm, Pitch 0.5mm, Thermal Pad 2.7x2.7mm, NSC Recommended)
pins: 1 SCLK (in), 2 SPWI (io), 3 RESETN (in), 4 VO2 (power), 5 VBAT1 (power), 6 VO1 (power), 7 DGND (power), 8 PWROK (out), 9 VBATSW (power), 10 SW (out), 11 SWGND (power), 12 VBAT2 (power), 13 VO3 (power), 14 VFB (in), 15 AGND (power), 16 ENABLE (in), 17 Thermal Pad (power)

## LP5550SQX/NOPB
designator U?
PowerWise Technology Compliant Energy Management Unit, 16-pin LLP, Pb-Free; PartNumber: LP5550SQX/NOPB; Manufacturer: National Semiconductor; PackageTopMarking: NS*UZXYTT*L5550SQ; PowerWise: Y; CompType: MiscPower; DatasheetVersion: Jan-2006; PackageVersion: revA, Oct-2003; PackageReference: SQA16A; PackageDescription: LLP, Plastic, Quad, 4 x 4 x 0.8mm Body, 16 Lead, 0.5mm Pitch, No Pullback; RoHS: Y; PinCount: 16; High-Reliability: Y; ComponentLink1Description: Manufacturer URL; ComponentLink1URL: http://www.national.com/; ComponentLink2Description: LP5550 Datasheet; ComponentLink2URL: http://www.national.com/ds/LP/LP5550.pdf; ComponentLink3Description: LP5550 Web Page; ComponentLink3URL: http://www.national.com/pf/LP/LP5550.html; ComponentLink4Description: SQA16A Package Page; ComponentLink4URL: http://www.national.com/packaging/folders/sqa16a.html
footprint SQA16A (QFN, 16-Leads, Body 4x4mm, Pitch 0.5mm, Thermal Pad 2.7x2.7mm, NSC Recommended)
pins: 1 SCLK (in), 2 SPWI (io), 3 RESETN (in), 4 VO2 (power), 5 VBAT1 (power), 6 VO1 (power), 7 DGND (power), 8 PWROK (out), 9 VBATSW (power), 10 SW (out), 11 SWGND (power), 12 VBAT2 (power), 13 VO3 (power), 14 VFB (in), 15 AGND (power), 16 ENABLE (in), 17 Thermal Pad (power)

## LP5551SQ
designator U?
PowerWise Technology Compliant Energy Management Unit, 36-pin LLP; PartNumber: LP5551SQ; Manufacturer: National Semiconductor; PackageTopMarking: NS*UZXYTTE#*LP5551SQ; PowerWise: Y; CompType: MiscPower; DatasheetVersion: Dec-2006; PackageVersion: revA, Jun-2003; PackageReference: SQA36A; PackageDescription: LLP, Plastic, Quad, 6 x 6 x 0.8mm Body, 36 Lead, 0.5mm Pitch, No Pullback; RoHS: N; PinCount: 36; High-Reliability: Y; ComponentLink1Description: Manufacturer URL; ComponentLink1URL: http://www.national.com/; ComponentLink2Description: LP5551 Datasheet; ComponentLink2URL: http://www.national.com/ds/LP/LP5551.pdf; ComponentLink3Description: LP5551 Web Page; ComponentLink3URL: http://www.national.com/pf/LP/LP5551.html; ComponentLink4Description: SQA36A Package Page; ComponentLink4URL: http://www.national.com/packaging/folders/sqa36a.html
footprint SQA36A (QFN, 36-Leads, Body 6x6mm, Pitch 0.5mm, Thermal Pad 4.7x4.7mm, NSC Recommended)
pins: 1 GP3 (out), 2 GP2 (out), 3 GP1 (out), 4 GP0 (out), 5 PWROK (out), 6 RESETN (in), 7 EN (in), 8 SPWI (io), 9 SCLK (in), 10 LDO2 (power), 11 LDO4 (power), 12 LDO1 (power), 13 NC, 14 LDO3 (power), 15 NC, 16 FB1 (in), 17 PGND1 (power), 18 PGND1 (power), 19 PGND1 (power), 20 SW1 (out), 21 PVDD1 (power), 22 VDD_D (power), 23 VDD_A (power), 24 NC, 25 PVDD2 (power), 26 SW2 (out), 27 PGND2 (power), 28 PGND2 (power), 29 PGND2 (power), 30 FB2 (in), 31 NC, 32 SCAN, 33 VPWELL (out), 34 NC, 35 VNWELL (out), 36 NC, 37 DAP (power)

## LP5551SQ/NOPB
designator U?
PowerWise Technology Compliant Energy Management Unit, 36-pin LLP, Pb-Free; PartNumber: LP5551SQ/NOPB; Manufacturer: National Semiconductor; PackageTopMarking: NS*UZXYTTE#*LP5551SQ; PowerWise: Y; CompType: MiscPower; DatasheetVersion: Dec-2006; PackageVersion: revA, Jun-2003; PackageReference: SQA36A; PackageDescription: LLP, Plastic, Quad, 6 x 6 x 0.8mm Body, 36 Lead, 0.5mm Pitch, No Pullback; RoHS: Y; PinCount: 36; High-Reliability: Y; ComponentLink1Description: Manufacturer URL; ComponentLink1URL: http://www.national.com/; ComponentLink2Description: LP5551 Datasheet; ComponentLink2URL: http://www.national.com/ds/LP/LP5551.pdf; ComponentLink3Description: LP5551 Web Page; ComponentLink3URL: http://www.national.com/pf/LP/LP5551.html; ComponentLink4Description: SQA36A Package Page; ComponentLink4URL: http://www.national.com/packaging/folders/sqa36a.html
footprint SQA36A (QFN, 36-Leads, Body 6x6mm, Pitch 0.5mm, Thermal Pad 4.7x4.7mm, NSC Recommended)
pins: 1 GP3 (out), 2 GP2 (out), 3 GP1 (out), 4 GP0 (out), 5 PWROK (out), 6 RESETN (in), 7 EN (in), 8 SPWI (io), 9 SCLK (in), 10 LDO2 (power), 11 LDO4 (power), 12 LDO1 (power), 13 NC, 14 LDO3 (power), 15 NC, 16 FB1 (in), 17 PGND1 (power), 18 PGND1 (power), 19 PGND1 (power), 20 SW1 (out), 21 PVDD1 (power), 22 VDD_D (power), 23 VDD_A (power), 24 NC, 25 PVDD2 (power), 26 SW2 (out), 27 PGND2 (power), 28 PGND2 (power), 29 PGND2 (power), 30 FB2 (in), 31 NC, 32 SCAN, 33 VPWELL (out), 34 NC, 35 VNWELL (out), 36 NC, 37 DAP (power)

## LP5551SQX
designator U?
PowerWise Technology Compliant Energy Management Unit, 36-pin LLP; PartNumber: LP5551SQX; Manufacturer: National Semiconductor; PackageTopMarking: NS*UZXYTTE#*LP5551SQ; PowerWise: Y; CompType: MiscPower; DatasheetVersion: Dec-2006; PackageVersion: revA, Jun-2003; PackageReference: SQA36A; PackageDescription: LLP, Plastic, Quad, 6 x 6 x 0.8mm Body, 36 Lead, 0.5mm Pitch, No Pullback; RoHS: N; PinCount: 36; High-Reliability: Y; ComponentLink1Description: Manufacturer URL; ComponentLink1URL: http://www.national.com/; ComponentLink2Description: LP5551 Datasheet; ComponentLink2URL: http://www.national.com/ds/LP/LP5551.pdf; ComponentLink3Description: LP5551 Web Page; ComponentLink3URL: http://www.national.com/pf/LP/LP5551.html; ComponentLink4Description: SQA36A Package Page; ComponentLink4URL: http://www.national.com/packaging/folders/sqa36a.html
footprint SQA36A (QFN, 36-Leads, Body 6x6mm, Pitch 0.5mm, Thermal Pad 4.7x4.7mm, NSC Recommended)
pins: 1 GP3 (out), 2 GP2 (out), 3 GP1 (out), 4 GP0 (out), 5 PWROK (out), 6 RESETN (in), 7 EN (in), 8 SPWI (io), 9 SCLK (in), 10 LDO2 (power), 11 LDO4 (power), 12 LDO1 (power), 13 NC, 14 LDO3 (power), 15 NC, 16 FB1 (in), 17 PGND1 (power), 18 PGND1 (power), 19 PGND1 (power), 20 SW1 (out), 21 PVDD1 (power), 22 VDD_D (power), 23 VDD_A (power), 24 NC, 25 PVDD2 (power), 26 SW2 (out), 27 PGND2 (power), 28 PGND2 (power), 29 PGND2 (power), 30 FB2 (in), 31 NC, 32 SCAN, 33 VPWELL (out), 34 NC, 35 VNWELL (out), 36 NC, 37 DAP (power)

## LP5551SQX/NOPB
designator U?
PowerWise Technology Compliant Energy Management Unit, 36-pin LLP, Pb-Free; PartNumber: LP5551SQX/NOPB; Manufacturer: National Semiconductor; PackageTopMarking: NS*UZXYTTE#*LP5551SQ; PowerWise: Y; CompType: MiscPower; DatasheetVersion: Dec-2006; PackageVersion: revA, Jun-2003; PackageReference: SQA36A; PackageDescription: LLP, Plastic, Quad, 6 x 6 x 0.8mm Body, 36 Lead, 0.5mm Pitch, No Pullback; RoHS: Y; PinCount: 36; High-Reliability: Y; ComponentLink1Description: Manufacturer URL; ComponentLink1URL: http://www.national.com/; ComponentLink2Description: LP5551 Datasheet; ComponentLink2URL: http://www.national.com/ds/LP/LP5551.pdf; ComponentLink3Description: LP5551 Web Page; ComponentLink3URL: http://www.national.com/pf/LP/LP5551.html; ComponentLink4Description: SQA36A Package Page; ComponentLink4URL: http://www.national.com/packaging/folders/sqa36a.html
footprint SQA36A (QFN, 36-Leads, Body 6x6mm, Pitch 0.5mm, Thermal Pad 4.7x4.7mm, NSC Recommended)
pins: 1 GP3 (out), 2 GP2 (out), 3 GP1 (out), 4 GP0 (out), 5 PWROK (out), 6 RESETN (in), 7 EN (in), 8 SPWI (io), 9 SCLK (in), 10 LDO2 (power), 11 LDO4 (power), 12 LDO1 (power), 13 NC, 14 LDO3 (power), 15 NC, 16 FB1 (in), 17 PGND1 (power), 18 PGND1 (power), 19 PGND1 (power), 20 SW1 (out), 21 PVDD1 (power), 22 VDD_D (power), 23 VDD_A (power), 24 NC, 25 PVDD2 (power), 26 SW2 (out), 27 PGND2 (power), 28 PGND2 (power), 29 PGND2 (power), 30 FB2 (in), 31 NC, 32 SCAN, 33 VPWELL (out), 34 NC, 35 VNWELL (out), 36 NC, 37 DAP (power)

## LP5552TL
designator U?
PWI 2.0 and PowerWise Technology Compliant Energy Management Unit, 36-pin Micro SMD; PartNumber: LP5552TL; Manufacturer: National Semiconductor; PackageTopMarking: XYTT*I SLKB; PowerWise: Y; CompType: MiscPower; DatasheetVersion: May-2008; PackageVersion: revC, Dec-2003; PackageReference: TLA36TTA; PackageDescription: Thin Micro SMD, 36 Bump (Large), 0.5mm Pitch; RoHS: Y; PinCount: 36; High-Reliability: Y; Code_JEDEC: MO-211-DK; ComponentLink1Description: Manufacturer URL; ComponentLink1URL: http://www.national.com/; ComponentLink2Description: LP5552 Datasheet; ComponentLink2URL: http://www.national.com/ds/LP/LP5552.pdf; ComponentLink3Description: LP5552 Web Page; ComponentLink3URL: http://www.national.com/pf/LP/LP5552.html; ComponentLink4Description: TLA36TTA Package Page; ComponentLink4URL: http://www.national.com/packaging/folders/tla36tta.html
footprint TLA36TTA (Micro SMD, 36-Leads, Body 3.46x3.46mm, Pitch 0.5mm, NSC Recommended)
pins: A1 PVDD2 (power), A2 SW2 (out), A3 PGND2 (power), A4 PGND1 (power), A5 SW1 (out), A6 PVDD1 (power), B1 AVDD2 (power), B2 VFB2 (in), B3 AGND2 (power), B4 AGND1 (power), B5 VFB1 (in), B6 AVDD1 (power), C1 VO4 (power), C2 SA1 (in), C3 RGND (power), C4 GPO0 (out), C5 Reserved (power), C6 VO3 (power), D1 AVDD3 (power), D2 SA2 (in), D3 GPO2 (out), D4 GPO1 (out), D5 ENABLE (in), D6 VO5 (power), E1 VO1 (power), E2 DVDD1 (power), E3 SA3 (in), E4 DGND1 (power), E5 RESETN (in), E6 DVDD2 (power), F1 SPWI (io), F2 SCLK (in), F3 SUB (power), F4 DGND2 (power), F5 PWROK (out), F6 VO2 (power)

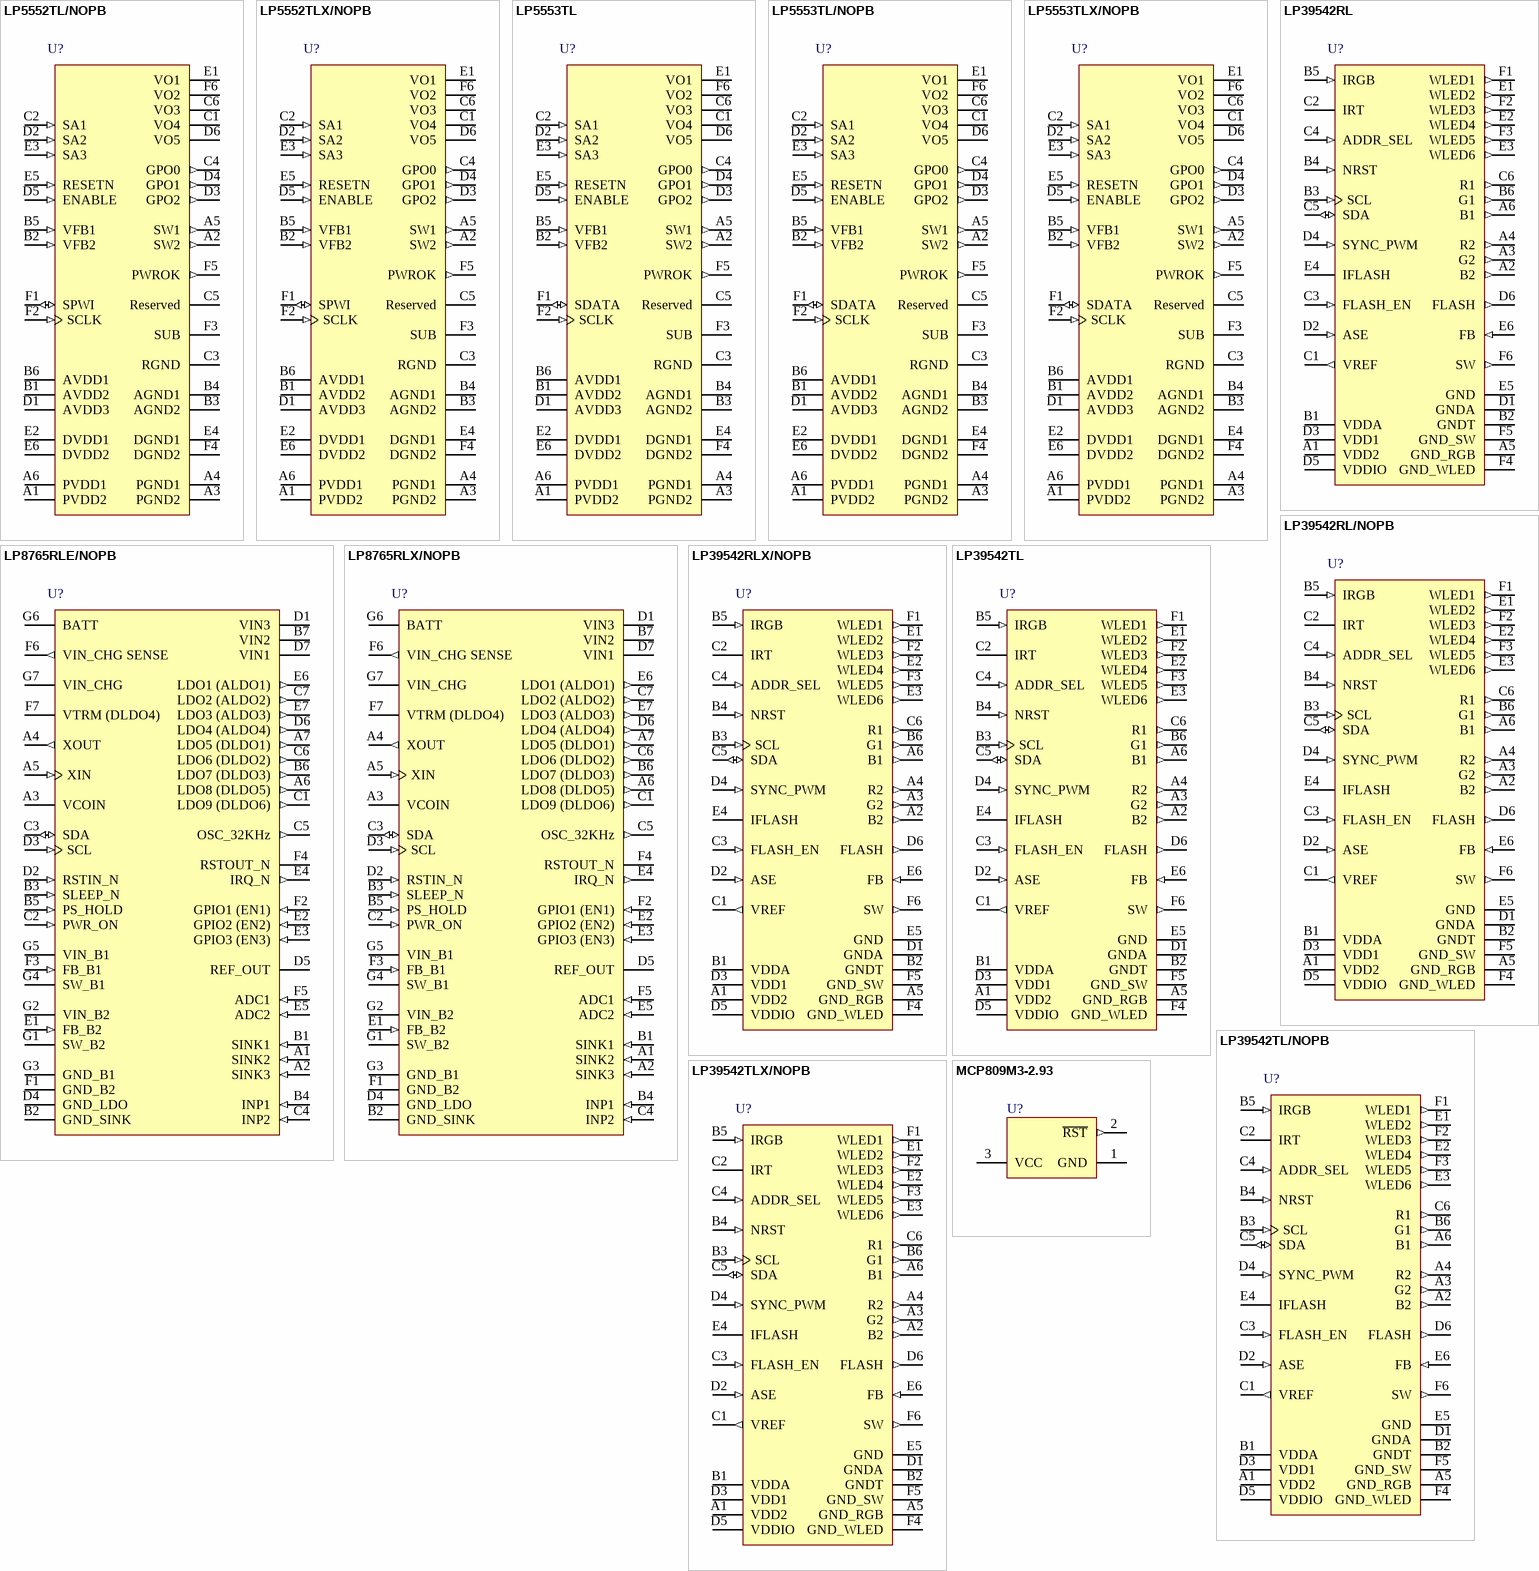
[diagram p55: symbols LP5552TL/NOPB to MCP809M3-2.93]

## LP5552TL/NOPB
designator U?
PWI 2.0 and PowerWise Technology Compliant Energy Management Unit, 36-pin Micro SMD, Pb-Free; PartNumber: LP5552TL/NOPB; Manufacturer: National Semiconductor; PackageTopMarking: XYTT*I SLKB; PowerWise: Y; CompType: MiscPower; DatasheetVersion: May-2008; PackageVersion: revC, Dec-2003; PackageReference: TLA36TTA; PackageDescription: Thin Micro SMD, 36 Bump (Large), 0.5mm Pitch; RoHS: Y; PinCount: 36; High-Reliability: Y; Code_JEDEC: MO-211-DK; ComponentLink1Description: Manufacturer URL; ComponentLink1URL: http://www.national.com/; ComponentLink2Description: LP5552 Datasheet; ComponentLink2URL: http://www.national.com/ds/LP/LP5552.pdf; ComponentLink3Description: LP5552 Web Page; ComponentLink3URL: http://www.national.com/pf/LP/LP5552.html; ComponentLink4Description: TLA36TTA Package Page; ComponentLink4URL: http://www.national.com/packaging/folders/tla36tta.html
footprint TLA36TTA (Micro SMD, 36-Leads, Body 3.46x3.46mm, Pitch 0.5mm, NSC Recommended)
pins: A1 PVDD2 (power), A2 SW2 (out), A3 PGND2 (power), A4 PGND1 (power), A5 SW1 (out), A6 PVDD1 (power), B1 AVDD2 (power), B2 VFB2 (in), B3 AGND2 (power), B4 AGND1 (power), B5 VFB1 (in), B6 AVDD1 (power), C1 VO4 (power), C2 SA1 (in), C3 RGND (power), C4 GPO0 (out), C5 Reserved (power), C6 VO3 (power), D1 AVDD3 (power), D2 SA2 (in), D3 GPO2 (out), D4 GPO1 (out), D5 ENABLE (in), D6 VO5 (power), E1 VO1 (power), E2 DVDD1 (power), E3 SA3 (in), E4 DGND1 (power), E5 RESETN (in), E6 DVDD2 (power), F1 SPWI (io), F2 SCLK (in), F3 SUB (power), F4 DGND2 (power), F5 PWROK (out), F6 VO2 (power)

## LP5552TLX/NOPB
designator U?
PWI 2.0 and PowerWise Technology Compliant Energy Management Unit, 36-pin Micro SMD, Pb-Free; PartNumber: LP5552TLX/NOPB; Manufacturer: National Semiconductor; PackageTopMarking: XYTT*I SLKB; PowerWise: Y; CompType: MiscPower; DatasheetVersion: May-2008; PackageVersion: revC, Dec-2003; PackageReference: TLA36TTA; PackageDescription: Thin Micro SMD, 36 Bump (Large), 0.5mm Pitch; RoHS: Y; PinCount: 36; High-Reliability: Y; Code_JEDEC: MO-211-DK; ComponentLink1Description: Manufacturer URL; ComponentLink1URL: http://www.national.com/; ComponentLink2Description: LP5552 Datasheet; ComponentLink2URL: http://www.national.com/ds/LP/LP5552.pdf; ComponentLink3Description: LP5552 Web Page; ComponentLink3URL: http://www.national.com/pf/LP/LP5552.html; ComponentLink4Description: TLA36TTA Package Page; ComponentLink4URL: http://www.national.com/packaging/folders/tla36tta.html
footprint TLA36TTA (Micro SMD, 36-Leads, Body 3.46x3.46mm, Pitch 0.5mm, NSC Recommended)
pins: A1 PVDD2 (power), A2 SW2 (out), A3 PGND2 (power), A4 PGND1 (power), A5 SW1 (out), A6 PVDD1 (power), B1 AVDD2 (power), B2 VFB2 (in), B3 AGND2 (power), B4 AGND1 (power), B5 VFB1 (in), B6 AVDD1 (power), C1 VO4 (power), C2 SA1 (in), C3 RGND (power), C4 GPO0 (out), C5 Reserved (power), C6 VO3 (power), D1 AVDD3 (power), D2 SA2 (in), D3 GPO2 (out), D4 GPO1 (out), D5 ENABLE (in), D6 VO5 (power), E1 VO1 (power), E2 DVDD1 (power), E3 SA3 (in), E4 DGND1 (power), E5 RESETN (in), E6 DVDD2 (power), F1 SPWI (io), F2 SCLK (in), F3 SUB (power), F4 DGND2 (power), F5 PWROK (out), F6 VO2 (power)